# EAGLE library part NTAG-I2C+ (library flexNT2_V1.0)
NT3H2211W0FHKH ~ NTAG I2C plus
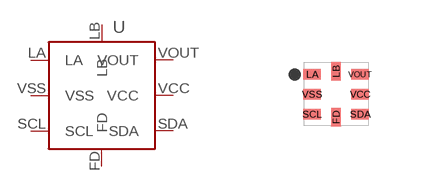
[diagram p0: symbol with the pads of XQFN8_NTAG-I2C+; footprint XQFN8_NTAG-I2C+]

Designator prefix U

## NTAG-I2C+  [XQFN8_NTAG-I2C+]
FD  FD
LA  LA
LB  LB
SCL  SCL
SDA  SDA
VCC  VCC
VOUT  VOUT
VSS  VSS

## Footprint XQFN8_NTAG-I2C+ (pad centres in mm)
smd 0.25 x 0.45: FD 0,-0.575; LB 0,0.575
smd 0.45 x 0.25: LA -0.6,0.5; SCL -0.6,-0.5; SDA 0.6,-0.5; VCC 0.6,0; VOUT 0.6,0.5; VSS -0.6,0